# EAGLE library part DS3231 (library ORBiT-IC-Maxim)
Extremely Accurate I2C-Integrated RTC/TCXO/Crystal The DS3231 is a low-cost, extremely accurate I²C real-time clock (RTC) with an integrated temperature-compensated crystal oscillator (TCXO) and crystal. The device incorporates a battery input, and maintains accurate timekeeping when main power to the device is interrupted. The integration of the crystal resonator enhances the long-term accuracy of the device as well as reduces the piece-part count in a manufacturing line. The DS3231 is available in commercial and industrial temperature ranges, and is offered in a 16-pin, 300-mil SO package. The RTC maintains seconds, minutes, hours, day, date, month, and year information. The date at the end of the month is automatically adjusted for months with fewer than 31 days, including corrections for leap year. The clock operates in either the 24-hour or 12-hour format with an active-low AM/PM indicator. Two programmable time-of-day alarms and a programmable square-wave output are provided. Address and data are transferred serially through an I2C bidirectional bus. A precision temperature-compensated voltage reference and comparator circuit monitors the status of VCC to detect power failures, to provide a reset output, and to automatically switch to the backup supply when necessary. Additionally, the active-low RST pin is monitored as a pushbutton input for generating a µP reset. Features: Highly Accurate RTC Completely Manages All Timekeeping Functions Real-Time Clock Counts Seconds, Minutes, Hours, Date of the Month, Month, Day of the Week, and Year, with Leap-Year Compensation Valid Up to 2100 Accuracy ±2ppm from 0°C to +40°C Accuracy ±3.5ppm from -40°C to +85°C Digital Temp Sensor Output: ±3°C Accuracy Register for Aging Trim Active-Low RST Output/Pushbutton Reset Debounce Input Two Time-of-Day Alarms Programmable Square-Wave Output Signal Simple Serial Interface Connects to Most Microcontrollers Fast (400kHz) I2C Interface Battery-Backup Input for Continuous Timekeeping Low Power Operation Extends Battery-Backup Run Time 3.3V Operation Operating Temperature Ranges: Commercial (0°C to +70°C) and Industrial (-40°C to +85°C) Underwriters Laboratories® (UL) Recognized Technical data: DS3231 Extremely Accurate I2C-Integrated RTC/TCXO/Crystal <https://www.maximintegrated.com/en/products/digital/real-time-clocks/DS3231.html>
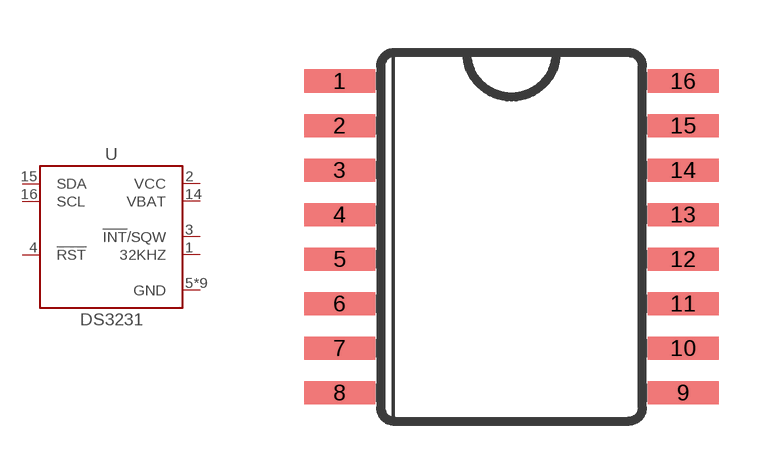
[diagram p0: symbol with the pads of SOIC16-300; footprint SOIC16-300]

Designator prefix U

## DS3231S# (MF: Maxim Integrated; MPN: DS3231S#; PN_DIGIKEY: DS3231S#-ND; PN_MOUSER: 700-DS3231S#), DS3231SN# (MF: Maxim Integrated; MPN: DS3231SN#; PN_DIGIKEY: DS3231SN#-ND; PN_MOUSER: 700-DS3231SN#)  [SOIC16-300]
1  32KHZ  out
2  VCC  pwr
3  !INT!/SQW  out
4  !RST
5  GND  pwr
6  GND  pwr
7  GND  pwr
8  GND  pwr
9  GND  pwr
10  GND  pwr
11  GND  pwr
12  GND  pwr
13  GND  pwr
14  VBAT  pwr
15  SDA
16  SCL

## Footprint SOIC16-300 (pad centres in mm)
SOIC-16, 300 mils JEDEC MS013
smd 2.032 x 0.66: 1 -4.902,4.445; 2 -4.902,3.175; 3 -4.902,1.905; 4 -4.902,0.635; 5 -4.902,-0.635; 6 -4.902,-1.905; 7 -4.902,-3.175; 8 -4.902,-4.445; 9 4.902,-4.445; 10 4.902,-3.175; 11 4.902,-1.905; 12 4.902,-0.635; 13 4.902,0.635; 14 4.902,1.905; 15 4.902,3.175; 16 4.902,4.445